# Altium footprint library Diode.PcbLib: 6 footprints
Each footprint in its own frame and in the unit in brackets; x right, y up, seen from the top. Pads: shape width x height; smd on the part's side, far side on the other; paste and mask are expansions set on the pad; w line width, h text height; cw(c..) or ccw(c..) is an arc to the next point about the centre after c.
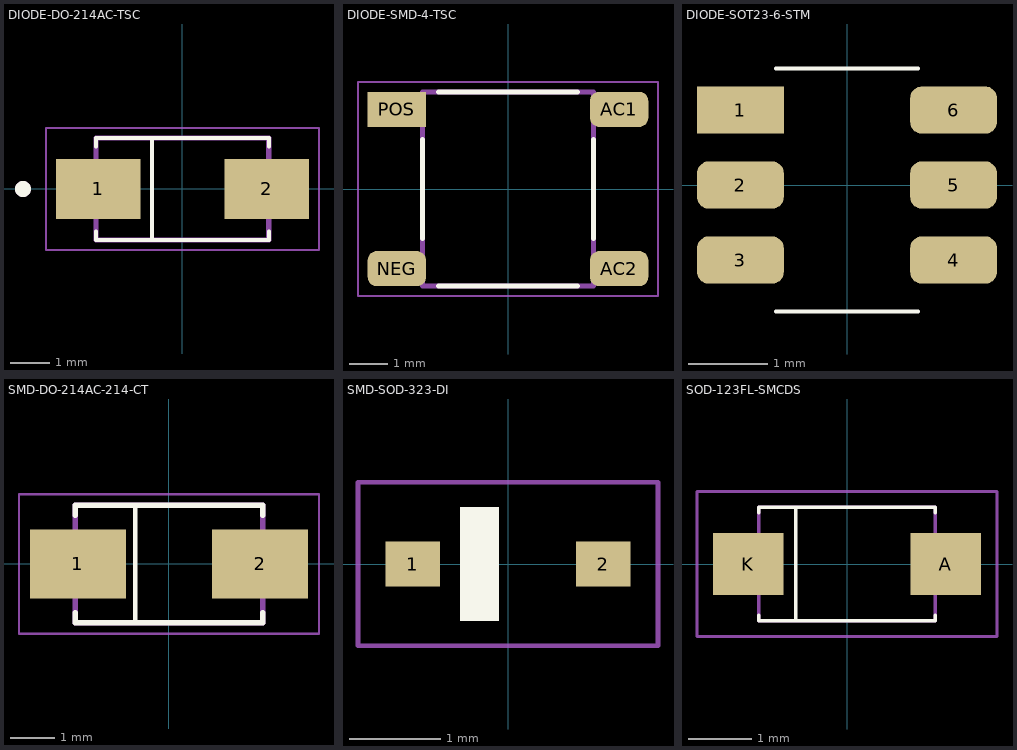
[diagram p0: the footprints below, top view; thin cyan lines are the x and y axes]

## DIODE-DO-214AC-TSC [mm]
height 2.5
pads (2):
  rect 2.12x1.5 smd: 1(-2.115,0) 2(2.115,0)
Top Overlay:
  circle w0.2: c-4,0 r0.1
  lines w0.1: -2.165,-1.07 -2.165,-1.28 2.165,-1.28 2.165,-1.07 ; -2.165,1.07 -2.165,1.28 2.165,1.28 2.165,1.07 ; -0.762,-1.27 -0.762,1.27
Mechanical 13:
  circle w0.2: c-4,0 r0.1
  lines w0.127: -2.165,-1.28 2.165,-1.28 2.165,1.28 -2.165,1.28 -2.165,-1.28
Mechanical 15:
  lines w0.05: -3.425,-1.53 3.425,-1.53 3.425,1.53 -3.425,1.53 -3.425,-1.53
3D body "step_temp.STEP": height 2.5, standoff 0, extent -2.57,-1.28 2.57,1.28

## DIODE-SMD-4-TSC [mm]
pads (4):
  rrect50% 1.5x0.9 smd: AC1(2.86,2.05) AC2(2.86,-2.05) NEG(-2.86,-2.05)
  rect 1.5x0.9 smd: POS(-2.86,2.05)
Top Overlay:
  lines w0.127: -2.2,-1.28 -2.2,1.28 ; -1.79,-2.5 1.79,-2.5 ; -1.79,2.5 1.79,2.5 ; 2.2,-1.28 2.2,1.28
Mechanical 1:
  lines w0.127: -2.2,-2.5 2.2,-2.5 2.2,2.5 -2.2,2.5 -2.2,-2.5
Mechanical 13:
  lines w0.127: -2.2,-2.5 2.2,-2.5 2.2,2.5 -2.2,2.5 -2.2,-2.5
Mechanical 15:
  lines w0.05: -3.86,-2.75 3.86,-2.75 3.86,2.75 -3.86,2.75 -3.86,-2.75
Mechanical 29:
  lines w0.05: -3.86,-2.75 3.86,-2.75 3.86,2.75 -3.86,2.75 -3.86,-2.75
  text "'.Designator'" at -2.286,-0.508 h1
3D body "step_temp.STEP": height 1.6, standoff 0, extent -3.225,-2.5 3.225,2.5

## DIODE-SOT23-6-STM [mm]
pads (6):
  rect 1.1x0.6 smd paste+0 mask+0.051: 1(-1.35,0.95)
  rrect50% 1.1x0.6 smd paste+0 mask+0.051: 2(-1.35,0) 3(-1.35,-0.95) 4(1.35,-0.95) 5(1.35,0) 6(1.35,0.95)
Top Overlay:
  lines w0.05: -0.9,-1.601 0.9,-1.601 ; -0.9,1.474 0.9,1.474
Mechanical 15:
  circle w0.2: c-1.4,0.95 r0.1
3D body "SOT23-6.step": height 1.1, standoff 0, extent -1.203,-1.566 1.297,1.434

## SMD-DO-214AC-214-CT [mm]
pads (2):
  rect 2.17x1.57 smd: 1(-2.065,0) 2(2.065,0)
Top Overlay:
  lines w0.1: -0.762,-1.332 -0.762,-1.346 -0.762,1.321
  lines w0.127: -2.123,-1.105 -2.123,-1.332 2.123,-1.332 2.123,-1.105 ; -2.123,1.105 -2.123,1.332 2.123,1.332 2.123,1.105
Mechanical 1:
  lines w0.127: -2.123,-1.332 2.123,-1.332 2.123,1.332 -2.123,1.332 -2.123,-1.332
Mechanical 13:
  lines w0.127: -2.123,-1.332 2.123,-1.332 2.123,1.332 -2.123,1.332 -2.123,-1.332
Mechanical 15:
  lines w0.05: -3.4,-1.582 -3.4,1.582 3.4,1.582 3.4,-1.582 -3.4,-1.582
Mechanical 29:
  lines w0.05: -3.4,-1.582 -3.4,1.582 3.4,1.582 3.4,-1.582 -3.4,-1.582
  text "'.Designator'" at -3.429,-0.635 h1.52
3D body "step_temp.STEP": height 2.2, standoff 0, extent -2.475,-1.25 2.475,1.25

## SMD-SOD-323-DI [mm]
pads (2):
  rect 0.6x0.5 smd: 1(-1.05,0) 2(1.05,0)
Top Overlay:
  region: -0.1,-0.625 -0.525,-0.625 -0.525,0.625 -0.1,0.625
Mechanical 15:
  lines w0.05: -1.65,-0.9 -1.65,0.9 1.65,0.9 1.65,-0.9 -1.65,-0.9
3D body "1N4148WS-7-F.step": height 1.2, standoff 0, extent -1.25,-0.65 1.25,0.65

## SOD-123FL-SMCDS [mm]
pads (2):
  rect 1.12x0.99 smd: A(1.57,0) K(-1.57,0)
Top Overlay:
  lines w0.05: -1.4,-0.808 -1.4,-0.9 1.4,-0.9 1.4,-0.808 ; -1.4,0.808 -1.4,0.9 1.4,0.9 1.4,0.808 ; -0.813,-0.889 -0.813,0.889
Mechanical 1:
  lines w0.05: -1.4,-0.9 -1.4,0.9 1.4,0.9 1.4,-0.9 -1.4,-0.9
Mechanical 13:
  lines w0.05: -1.4,-0.9 -1.4,0.9 1.4,0.9 1.4,-0.9 -1.4,-0.9
Mechanical 15:
  lines w0.05: -2.38,-1.15 -2.38,1.15 2.38,1.15 2.38,-1.15 -2.38,-1.15
Mechanical 29:
  lines w0.05: -2.38,-1.15 -2.38,1.15 2.38,1.15 2.38,-1.15 -2.38,-1.15
  text "'.Designator'" at -1.524,-0.254 h0.7
3D body "step_temp.STEP": height 1.1, standoff 0, extent -1.8,-0.9 1.8,0.9